# Altium footprint library AddrLED_COM-16347.PcbLib: 3 footprints
Each footprint in its own frame and in the unit in brackets; x right, y up, seen from the top. Pads: shape width x height; smd on the part's side, far side on the other; paste and mask are expansions set on the pad; w line width, h text height; cw(c..) or ccw(c..) is an arc to the next point about the centre after c.
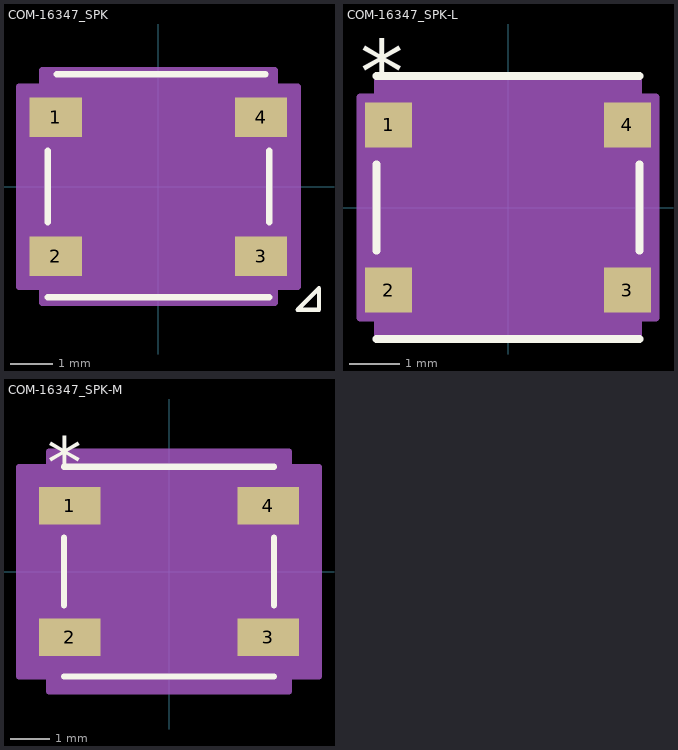
[diagram p0: the footprints below, top view; thin cyan lines are the x and y axes]

## COM-16347_SPK [mm]
pads (4):
  rect 1.239x0.939 smd paste+0 mask+0: 1(-2.436,1.65) 2(-2.436,-1.65) 3(2.436,-1.65) 4(2.436,1.65)
Top Overlay:
  lines w0.102: 3.302,-2.921 3.81,-2.413 3.81,-2.921 3.302,-2.921
  lines w0.152: -2.629,-2.629 2.629,-2.629 ; -2.629,-0.848 -2.629,0.848 ; -2.413,2.667 2.54,2.667 ; 2.629,-0.848 2.629,0.848
Mechanical 13:
  lines w0.025: -0.305,2.502 ccw(c0,2.502) 0.305,2.502 ; -2.705,-2.094 -2.502,-2.094 -2.502,-1.205 -2.705,-1.205 -2.705,-2.094 ; -2.705,1.205 -2.502,1.205 -2.502,2.094 -2.705,2.094 -2.705,1.205 ; -2.502,-2.502 -2.502,2.502 2.502,2.502 2.502,-2.502 -2.502,-2.502 ; 2.502,-2.094 2.705,-2.094 2.705,-1.205 2.502,-1.205 2.502,-2.094 ; 2.502,1.205 2.705,1.205 2.705,2.094 2.502,2.094 2.502,1.205
  text "*" at -2.245,1.319 h1.27
Mechanical 15:
  region: -2.756,-2.374 -3.309,-2.374 -3.309,2.374 -2.756,2.374 -2.756,2.756 2.756,2.756 2.756,2.374 3.309,2.374 3.309,-2.374 2.756,-2.374 2.756,-2.756 -2.756,-2.756
  lines w0.152: -3.309,-2.374 -2.756,-2.374 -2.756,-2.756 2.756,-2.756 2.756,-2.374 3.309,-2.374 3.309,2.374 2.756,2.374 2.756,2.756 -2.756,2.756 -2.756,2.374 -3.309,2.374 -3.309,-2.374
3D body "LED_ws2812B-1.step": height 1.56, standoff -0.01, extent -2.7,-2.5 2.7,2.5

## COM-16347_SPK-L [mm]
pads (4):
  rect 0.939x0.899 smd paste+0 mask+0: 1(-2.386,1.65) 2(-2.386,-1.65) 3(2.386,-1.65) 4(2.386,1.65)
Top Overlay:
  lines w0.152: -2.629,-2.629 2.629,-2.629 ; -2.629,-0.868 -2.629,0.868 ; -2.629,2.629 2.629,2.629 ; 2.629,-0.868 2.629,0.868
  text ".Designator" at -3.492,-0.635 h1.27
  text "*" at -2.957,2.1 h1.27
Mechanical 13:
  lines w0.025: -0.305,2.502 ccw(c0,2.502) 0.305,2.502 ; -2.705,-2.094 -2.705,-1.205 -2.502,-1.205 -2.502,-2.094 -2.705,-2.094 ; -2.705,1.205 -2.705,2.094 -2.502,2.094 -2.502,1.205 -2.705,1.205 ; -2.502,-2.502 2.502,-2.502 2.502,2.502 -2.502,2.502 -2.502,-2.502 ; 2.502,-2.094 2.502,-1.205 2.705,-1.205 2.705,-2.094 2.502,-2.094 ; 2.502,1.205 2.502,2.094 2.705,2.094 2.705,1.205 2.502,1.205
  text "*" at -2.195,1.279 h1.27
  text ".Designator" at -3.492,-0.635 h1.27
Mechanical 15:
  region: -2.603,-2.201 -2.957,-2.201 -2.957,2.201 -2.603,2.201 -2.603,2.603 2.603,2.603 2.603,2.201 2.957,2.201 2.957,-2.201 2.603,-2.201 2.603,-2.603 -2.603,-2.603
  lines w0.152: -2.957,-2.201 -2.957,2.201 -2.603,2.201 -2.603,2.603 2.603,2.603 2.603,2.201 2.957,2.201 2.957,-2.201 2.603,-2.201 2.603,-2.603 -2.603,-2.603 -2.603,-2.201 -2.957,-2.201
3D body "COM-16347_SPK.step": height 1.6, standoff 0, extent -2.705,-2.502 2.705,2.502

## COM-16347_SPK-M [mm]
pads (4):
  rect 1.539x0.939 smd paste+0 mask+0: 1(-2.486,1.65) 2(-2.486,-1.65) 3(2.486,-1.65) 4(2.486,1.65)
Top Overlay:
  lines w0.152: -2.629,-2.629 2.629,-2.629 ; -2.629,-0.848 -2.629,0.848 ; -2.629,2.629 2.629,2.629 ; 2.629,-0.848 2.629,0.848
  text ".Designator" at -3.492,-0.635 h1.27
  text "*" at -3.057,2.12 h1.27
Mechanical 13:
  lines w0.025: -0.305,2.502 ccw(c0,2.502) 0.305,2.502 ; -2.705,-2.094 -2.705,-1.205 -2.502,-1.205 -2.502,-2.094 -2.705,-2.094 ; -2.705,1.205 -2.705,2.094 -2.502,2.094 -2.502,1.205 -2.705,1.205 ; -2.502,-2.502 2.502,-2.502 2.502,2.502 -2.502,2.502 -2.502,-2.502 ; 2.502,-2.094 2.502,-1.205 2.705,-1.205 2.705,-2.094 2.502,-2.094 ; 2.502,1.205 2.502,2.094 2.705,2.094 2.705,1.205 2.502,1.205
  text "*" at -2.295,1.319 h1.27
  text ".Designator" at -3.492,-0.635 h1.27
Mechanical 15:
  region: -3.01,-2.628 -3.763,-2.628 -3.763,2.628 -3.01,2.628 -3.01,3.01 3.01,3.01 3.01,2.628 3.763,2.628 3.763,-2.628 3.01,-2.628 3.01,-3.01 -3.01,-3.01
  lines w0.152: -3.763,-2.628 -3.763,2.628 -3.01,2.628 -3.01,3.01 3.01,3.01 3.01,2.628 3.763,2.628 3.763,-2.628 3.01,-2.628 3.01,-3.01 -3.01,-3.01 -3.01,-2.628 -3.763,-2.628
3D body "COM-16347_SPK.step": height 1.6, standoff 0, extent -2.705,-2.502 2.705,2.502